# EAGLE library part LTC3524 (library PowerProducts)
LT-Spice library generated with : ltspice.ulp from: D:/Program Files (x86)/LTC/LTspiceIV/lib/sym/PowerProducts/LTC3526*.asy at 07.10.2012 18:13:39
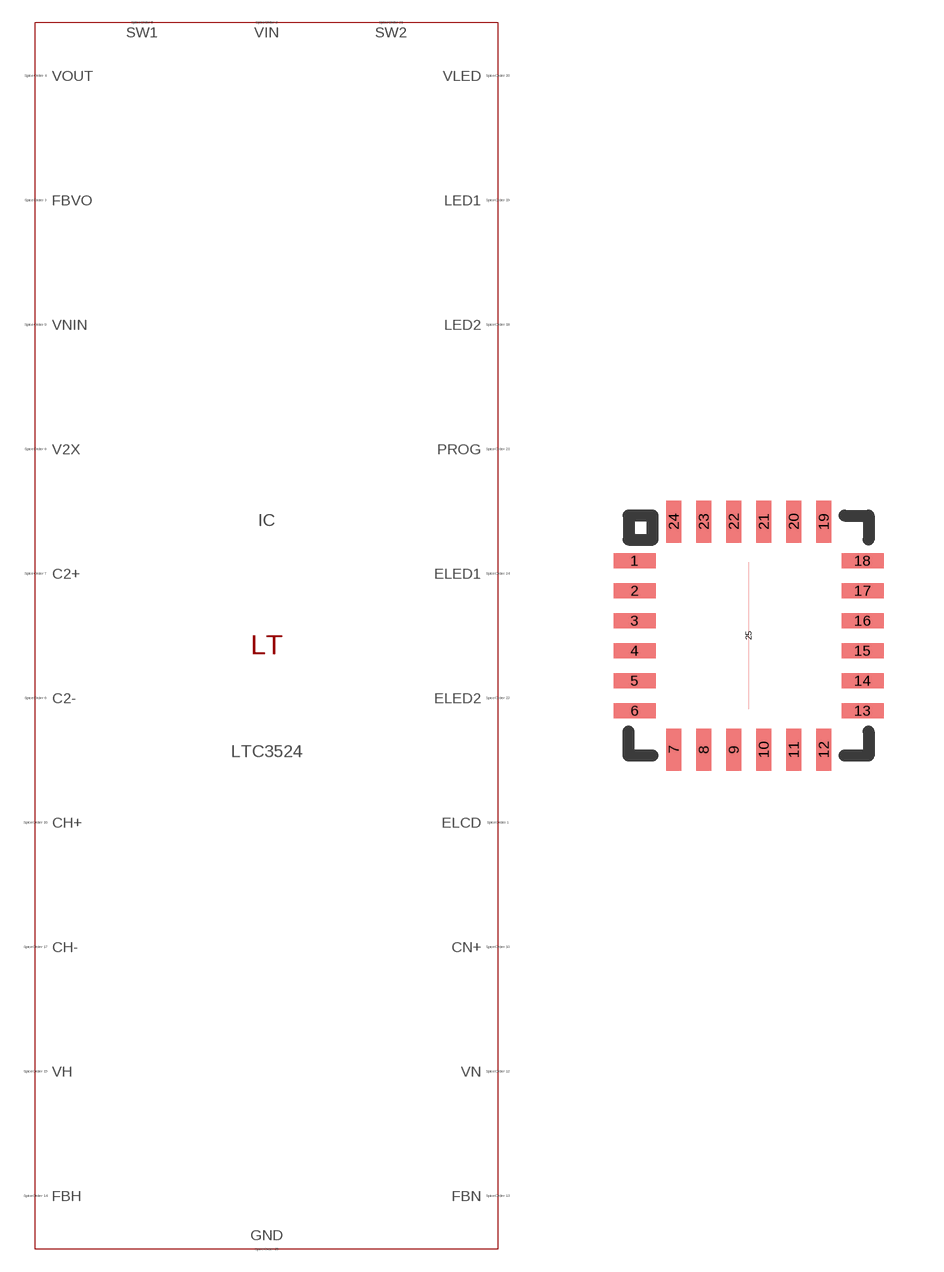
[diagram p202: symbol with the pads of QFN24(UF); footprint QFN24(UF)]

Designator prefix IC

## LTC3524 (SPICEMODEL: LTC3524.sub; SPICEPREFIX: X; VALUE2: LTC3524)  [QFN24(UF)]
1  ELCD  pas
2  VIN  pas
3  FBVO  pas
4  VOUT  pas
5  SW1  pas
6  C2-  pas
7  C2+  pas
8  V2X  pas
9  VNIN  pas
10  CN+  pas
12  VN  pas
13  FBN  pas
14  FBH  pas
15  VH  pas
16  CH+  pas
17  CH-  pas
18  LED2  pas
19  LED1  pas
20  VLED  pas
21  SW2  pas
22  ELED2  pas
23  PROG  pas
24  ELED1  pas
25  GND  pas

## Footprint QFN24(UF) (pad centres in mm)
Package generated from: QFN24(UF).asc (!PADS-POWERPCB-V5.0-BASIC! DESIGN DATABASE ASCII FILE 1.0) with :import-pads-powerpcb-v5.ulp Version 1.0.1 at 04.10.2012 14:11:24
smd 1.05 x 0.375: 1 -2.85,1.875; 2 -2.85,1.125; 3 -2.85,0.375; 4 -2.85,-0.375; 5 -2.85,-1.125; 6 -2.85,-1.875; 13 2.85,-1.875; 14 2.85,-1.125; 15 2.85,-0.375; 16 2.85,0.375; 17 2.85,1.125; 18 2.85,1.875
smd 0.375 x 1.05: 7 -1.875,-2.85; 8 -1.125,-2.85; 9 -0.375,-2.85; 10 0.375,-2.85; 11 1.125,-2.85; 12 1.875,-2.85; 19 1.875,2.85; 20 1.125,2.85; 21 0.375,2.85; 22 -0.375,2.85; 23 -1.125,2.85; 24 -1.875,2.85
smd 0 x 3.675: 25 0,0